# Altium schematic symbol library Schematic_Library.SchLib: 38 symbols (part 2 of 2)
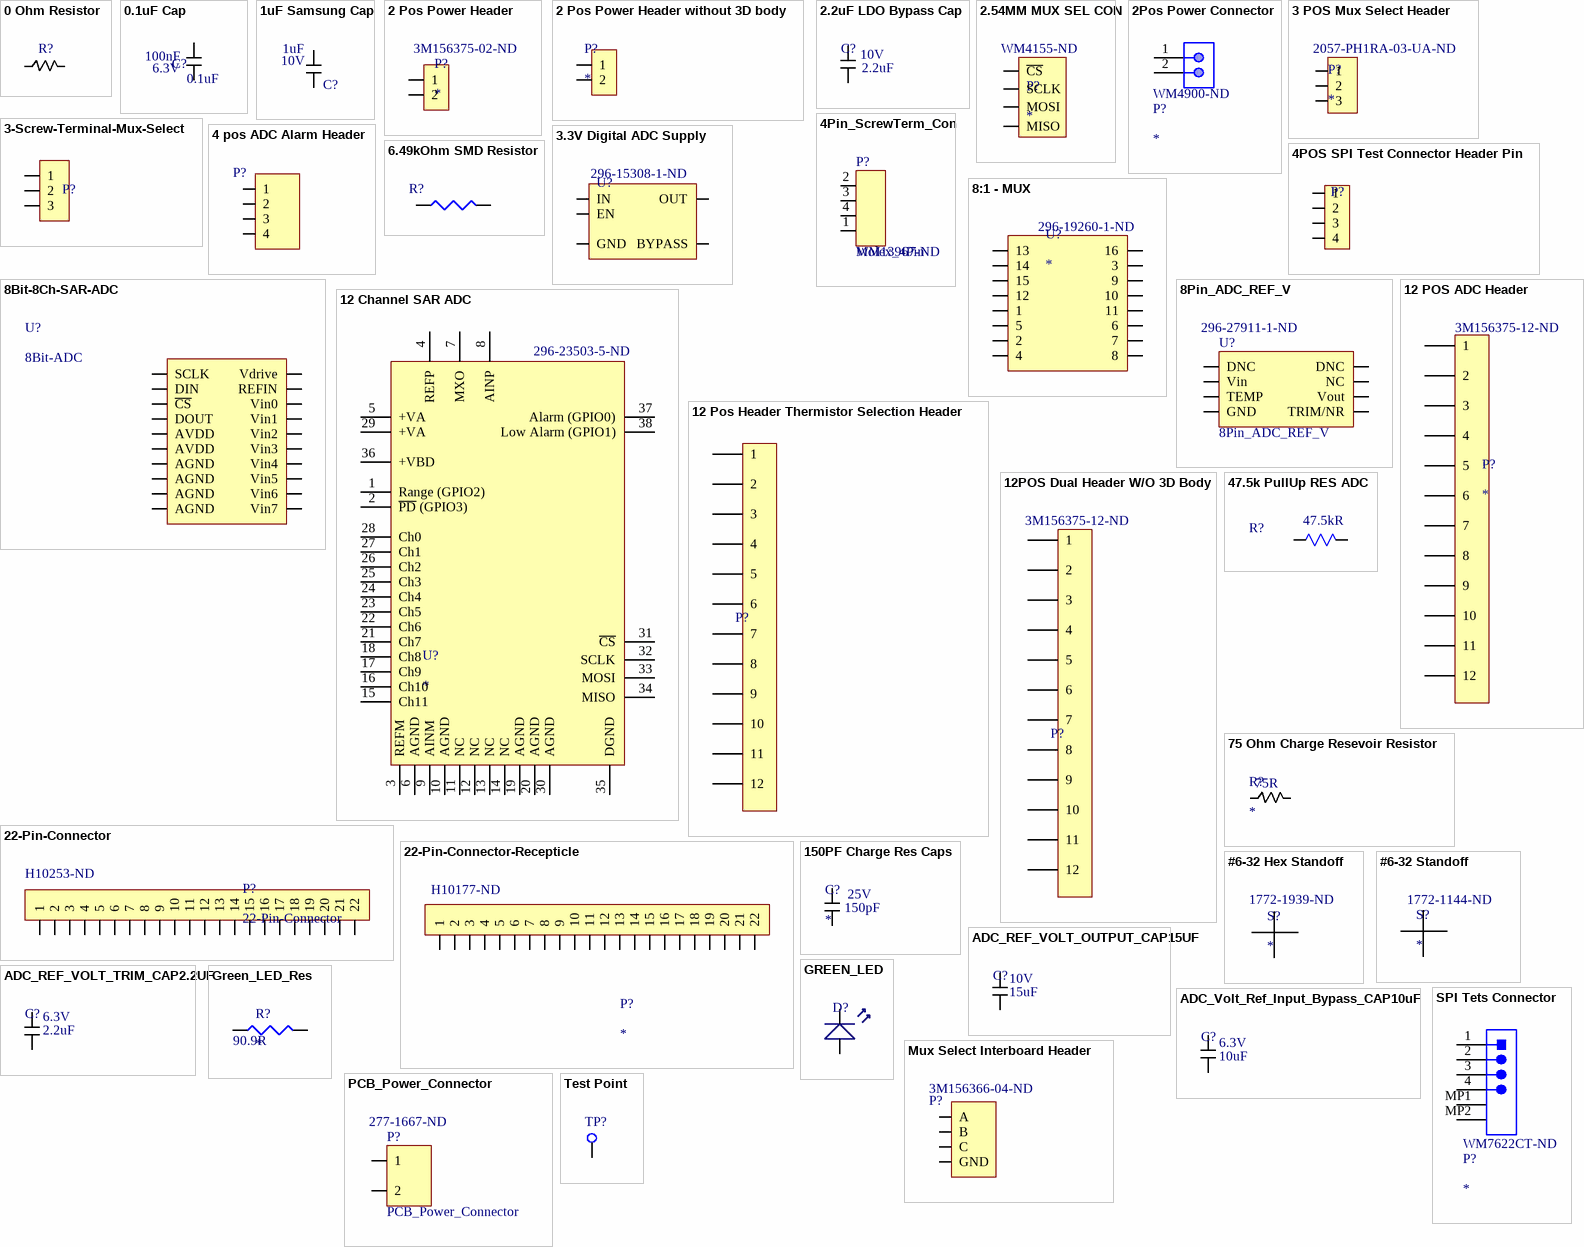
[diagram p1: symbols 0 Ohm Resistor to Test Point]

## ADC_REF_VOLT_TRIM_CAP2.2UF
designator C?  Voltage Rating: 6.3V  Capacitance: 2.2uF  (hidden comment: *)
2.2µF ±10% 6.3V Ceramic Capacitor X7R 0603 (1608 Metric); Manufacturer: Taiyo Yuden; Manufacturer Part Number: JMK107B7225KAHTR; Description: CAP CER 2.2UF 6.3V X7R 0603; Supplier 1: Digi-Key; RoHS: No; Stock 1: 55560; Pricing 1: 1 = 0.24000, 10 = 0.16600, 100 = 0.09400, 500 = 0.06638, 1000 = 0.05808 (USD); Mount: Surface Mount; Case/Package: 0603; Case Code (Imperial): 0603; Case Code (Metric): 1608; Min Operating Temperature: -55°C; Max Operating Temperature: 125°C; Packaging: Cut Tape; Tolerance: 10%; Ratings: AEC-Q200; ComponentLink1URL: http://ds.yuden.co.jp/TYCOMPAS/ut/detail.do?productNo=JMK107B7225KAHTR&fileName=JMK107B7225KAHTR_SS&mode=specSheetDownload&src-supplier=Digi-Key; ComponentLink1Description: http://ds.yuden.co.jp/TYCOMPAS/ut/detail.do?productNo=JMK107B7225KAHTR&fileName=JMK107B7225KAHTR_SS&mode=specSheetDownload&src-supplier=Digi-Key; ComponentLink2URL: https://www.yuden.co.jp/productdata/catalog//mlcc11_hq_e.pdf?src-supplier=Digi-Key; ComponentLink2Description: https://www.yuden.co.jp/productdata/catalog//mlcc11_hq_e.pdf?src-supplier=Digi-Key; Supplier Part Number 1: 587-4899-1-ND
footprint 0603_MD_CAP
pins: 1, 2

## ADC_Volt_Ref_Input_Bypass_CAP10uF
designator C?  Voltage Rating: 6.3V  Capacitance: 10uF  (hidden comment: *)
10µF ±10% 6.3V Ceramic Capacitor X7R 0805 (2012 Metric); Manufacturer: Taiyo Yuden; Manufacturer Part Number: JMK212AB7106KGHT; Description: Multilayer Ceramic Capacitors MLCC - SMD/SMT 10uF 6.3V X7R +/-10% 0805 AEC-Q200; Supplier 1: Digi-Key; RoHS: Yes; Stock 1: 179784; Pricing 1: 1 = 0.29000, 10 = 0.19900, 100 = 0.11250, 500 = 0.07940, 1000 = 0.06948 (USD); Mount: Surface Mount; Case/Package: 0805; Case Code (Metric): 2012; Case Code (Imperial): 0805; Min Operating Temperature: -55°C; Max Operating Temperature: 125°C; Package Quantity: 3000; Packaging: Tape and Reel; Tolerance: 10%; Voltage Rating (DC): 6.3V; Dielectric: X7R; Termination: SMD/SMT; Length: 0.079inch; Height: 1.25mm; Width: 0.049inch; Thickness: 0.053inch; Ratings: AEC-Q200; Lead Free: Lead Free; Halogen Free: Halogen Free; ComponentLink1URL: https://datasheet.ciiva.com/18697/mlcc01-hq-e-18697416.pdf?src-supplier=Digi-Key; ComponentLink1Description: https://datasheet.ciiva.com/18697/mlcc01-hq-e-18697416.pdf?src-supplier=Digi-Key; ComponentLink2URL: https://datasheet.ciiva.com/18697/mlcc01-hq-e-18697417.pdf?src-supplier=Digi-Key; ComponentLink2Description: https://datasheet.ciiva.com/18697/mlcc01-hq-e-18697417.pdf?src-supplier=Digi-Key; ComponentLink3URL: https://datasheet.ciiva.com/18697/mlcc01-hq-e-18697418.pdf?src-supplier=Digi-Key; ComponentLink3Description: https://datasheet.ciiva.com/18697/mlcc01-hq-e-18697418.pdf?src-supplier=Digi-Key; Supplier Part Number 1: 587-3388-1-ND
footprint 0805_MD_CAP
pins: 1, 2

## GREEN_LED
designator D?, comment LED  (value not drawn)
Manufacturer: Dialight; Manufacturer Part Number: 5988070107F; Color: Green; Lens Color: Colorless,Clear; Forward Voltage: 2V; Forward Current: 20mA; Wavelength: 570nm; Luminous Intensity: 20mcd; Viewing Angle: 140°; Lens Style: Flat,Rectangular,Diffused,Colorless,Clear; Dominant Wavelength: 568nm; Number of Elements: 1; Power Dissipation: 60mW; Reverse Voltage: 5V; Lens Transparency: Clear; Lens Size: 0.8mm; Supplier 1: Digi-Key; Stock 1: 228546; Pricing 1: 1=0.46, 10=0.33, 25=0.2528, 100=0.1648, 250=0.1209, 500=0.1026, 1000=0.0843 (USD); Mount: Surface Mount; Case/Package: 0603; Number of Pins: 2; Case Code (Metric): 1608; Case Code (Imperial): 0603; Min Operating Temperature: -30°C; Max Operating Temperature: 100°C; Package Quantity: 4000; Packaging: Tape and Reel; Illumination Color: Green; Test Current: 20mA; Number of LEDs: 1; Length: 1.6mm; Height: 0.7mm; Depth: 0.8mm; Width: 0.8mm; Radiation Hardening: No; Lead Free: Lead Free; REACH SVHC: No SVHC; ComponentLink1URL: http://www.mouser.com/ds/2/109/SMT_selector_guide-267443.pdf?src-supplier=Mouser; ComponentLink1Description: http://www.mouser.com/ds/2/109/SMT_selector_guide-267443.pdf?src-supplier=Mouser; ComponentLink2URL: http://uk.rs-online.com/webdocs/0ae2/0900766b80ae2975.pdf?src-supplier=RSComponents; ComponentLink2Description: http://uk.rs-online.com/webdocs/0ae2/0900766b80ae2975.pdf?src-supplier=RSComponents; ComponentLink3URL: http://www.farnell.com/datasheets/1720200.pdf?src-supplier=Element14; ComponentLink3Description: http://www.farnell.com/datasheets/1720200.pdf?src-supplier=Element14; ComponentLink4URL: https://media.digikey.com/pdf/Data%20Sheets/Dialight%20PDFs/598_Series_0603_Pkg.pdf?src-supplier=Digi-Key; ComponentLink4Description: https://media.digikey.com/pdf/Data%20Sheets/Dialight%20PDFs/598_Series_0603_Pkg.pdf?src-supplier=Digi-Key; ComponentLink5URL: http://www.farnell.com/datasheets/1484480.pdf?src-supplier=Element14; ComponentLink5Description: http://www.farnell.com/datasheets/1484480.pdf?src-supplier=Element14; ComponentLink6URL: https://www.alliedelec.com/m/d/745256ca487aea7b70ea31e2d673d5bb.pdf?src-supplier=Allied+Electronics; ComponentLink6Description: https://www.alliedelec.com/m/d/745256ca487aea7b70ea31e2d673d5bb.pdf?src-supplier=Allied+Electronics; ComponentLink7URL: http://www.onlinecomponents.com/productFiles/mf-DIA/mdei5980603.pdf?src-supplier=Onlinecomponents.com; ComponentLink7Description: http://www.onlinecomponents.com/productFiles/mf-DIA/mdei5980603.pdf?src-supplier=Onlinecomponents.com; ComponentLink8URL: https://www.verical.com/server-webapp/html/getDatasheet?partID=146438&src-supplier=Verical; ComponentLink8Description: https://www.verical.com/server-webapp/html/getDatasheet?partID=146438&src-supplier=Verical; ComponentLink9URL: http://www.dialight.com/Assets/Brochures_And_Catalogs/Indication/SMT_selector_guide.pdf?src-supplier=Future+Electronics; ComponentLink9Description: http://www.dialight.com/Assets/Brochures_And_Catalogs/Indication/SMT_selector_guide.pdf?src-supplier=Future+Electronics; Supplier Part Number 1: 350-2035-1-ND
footprint Green_SMD_LED
pins: 1, 2

## Green_LED_Res
designator R?  Resistance: 90.9R
Manufacturer: Panasonic; Manufacturer Part Number: ERJ-1GNF90R9C; Power Rating: 50mW; Tolerance: 1%; Voltage Rating: 25V; Temperature Coefficient: 200ppm/°C; Voltage Rating (DC): 50V; Mount: Surface Mount; Case/Package: 0201; Case Code (Imperial): 0201; Case Code (Metric): 0603; Contact Plating: Tin,Matte; Min Operating Temperature: -55°C; Max Operating Temperature: 125°C; Package Quantity: 15000; Packaging: Tape and Reel; Composition: Thick Film; Number of Terminations: 2; Max Power Dissipation: 50mW; Termination: SMD/SMT; Length: 0.024inch; Height: 0.01inch; Width: 0.3mm; Radiation Hardening: No; Supplier 1: Digi-Key; Stock 1: 401780; Pricing 1: 1=0.10000, 10=0.02400, 100=0.00970, 1000=0.00437, 2500=0.00379 (USD); RoHS: Yes; Military Standard: Not; Depth: 0.8mm; Lead Free: Lead Free; ComponentLink1URL: https://datasheet.ciiva.com/15189/getdatasheetpartid-326528-15189836.pdf?src-supplier=Verical; ComponentLink1Description: https://datasheet.ciiva.com/15189/getdatasheetpartid-326528-15189836.pdf?src-supplier=Verical; ComponentLink2URL: https://datasheet.ciiva.com/12558/rc0603-272842-12558285.pdf?src-supplier=Mouser; ComponentLink2Description: https://datasheet.ciiva.com/12558/rc0603-272842-12558285.pdf?src-supplier=Mouser; Supplier Part Number 1: 311-90.9HRCT-ND
footprint Green_LED_Resistor_90.9
pins: 1, 2

## Mux Select Interboard Header
designator P?  Supplier Part Number 1: 3M156366-04-ND  (hidden comment: *)
Connector Header Through Hole 4 position 0.100" (2.54mm); Manufacturer: 3M; Manufacturer Part Number: 929710-06-02-RK; Number of Positions: 4; Gender: Male; Connector Type: Male Pin; Pitch: 0.1inch; Supplier 1: Digi-Key; Stock 1: 0; Pricing 1: 1=0.55000, 10=0.52000, 25=0.46800, 50=0.41600, 100=0.39870, 250=0.36400, 500=0.34666 (USD); Mount: Through Hole; Color: Black; Contact Plating: Tin; Package Quantity: 1000; Number of Rows: 2; Packaging: Bulk; Termination: Solder; Row Spacing: 0.1inch; Contact Mating Length: 0.318inch; ComponentLink1URL: https://datasheet.ciiva.com/6818/ts0769-6818121.pdf?src-supplier=Digi-Key; ComponentLink1Description: https://datasheet.ciiva.com/6818/ts0769-6818121.pdf?src-supplier=Digi-Key; ComponentLink2URL: https://datasheet.ciiva.com/15402/ts0769-15402221.pdf?src-supplier=Mouser; ComponentLink2Description: https://datasheet.ciiva.com/15402/ts0769-15402221.pdf?src-supplier=Mouser
footprint Mux Select Interboard Connector
pins: 1 A, 2 B, 3 C, 4 GND

## PCB_Power_Connector
designator P?  Supplier Part Number 1: 277-1667-ND
Manufacturer: Phoenix Contact; Manufacturer Part Number: PT1,5/2-5.0-H; Max Current Rating: 16A; Max Supply Voltage: 250V; Current Rating: 17.5A; Number of Poles: 2; Number of Levels: 1; Current: 18A; Voltage: 300V; Voltage Rating (DC): 320V; Connector Type: Screw; Wire Gauge (Max): 26AWG; Wire Gauge (Min): 12AWG; Pitch: 5mm; Wire/Cable Gauge: 14AWG; Approvals: UL; Supplier 1: Digi-Key; Stock 1: 104404; Pricing 1: 1=0.43, 10=0.411, 50=0.3928, 100=0.382, 250=0.357, 500=0.3284, 1000=0.3035 (USD); Mount: Through Hole; Number of Pins: 2; Weight: 0.067021oz; Color: Green; Material: Nylon; Housing Color: Green; Housing Material: Polyamide; Insulation Material: Nylon; Contact Material: Copper,Tin; Number of Rows: 1; Voltage Rating: 250V; Package Quantity: 250; Packaging: Bulk; Number of Positions: 2; Number of Positions Per Level: 2; Termination: Solder; Number of Contacts: 2; Number of Circuits: 2; Orientation: Straight; Length: 9mm; Height: 11.3mm; Width: 14.9mm; Depth: 9mm; Radiation Hardening: No; Lead Free: Lead Free; Flammability Rating: UL94 V-0; ComponentLink1URL: https://media.digikey.com/pdf/Data%20Sheets/Phoenix%20Contact%20PDFs/1935161.pdf; ComponentLink1Description: https://media.digikey.com/pdf/Data%20Sheets/Phoenix%20Contact%20PDFs/1935161.pdf; ComponentLink2URL: https://www.verical.com/server-webapp/html/getDatasheet?partID=177903; ComponentLink2Description: https://www.verical.com/server-webapp/html/getDatasheet?partID=177903
footprint Power_Connector
pins: 1 "Board Power", 2 "Board Power"

## SPI Tets Connector
designator P?  Supplier Part Number 1: WM7622CT-ND
1.25mm Pitch PicoBlade™ Header, Surface Mount, Right Angle, 4 Circuits; Manufacturer: Molex; Manufacturer Part Number: 53261-0471; Number of Positions: 4; Gender: Male; Current Rating: 1A; Voltage Rating: 125V; Insulation Resistance: 100MR; Contact Resistance: 20mR; Glow Wire Compliant: Non-compliant; Supplier 1: Digi-Key; Stock 1: 20955; Pricing 1: 1=1.24000, 10=1.08900, 100=0.93970, 500=0.76884 (USD); RoHS: Yes; Mount: Surface Mount; Contact Plating: Tin; Contact Material: Bronze; Color: Beige; Housing Material: Thermoplastic; Min Operating Temperature: -40°C; Max Operating Temperature: 85°C; Number of Rows: 1; Package Quantity: 1000; Packaging: Tape and Reel; Termination: SMD/SMT; Number of Contacts: 4; Orientation: Right Angle; Voltage Rating (AC): 125V; Working Voltage: 125V; Number of Circuits: 4; Voltage Rating (DC): 125V; Pitch: 1.25mm; Lead Pitch: 1.25mm; Radiation Hardening: No; REACH SVHC: Unknown; Flammability Rating: UL94 V-0; Lead Free: Lead Free; ComponentLink1URL: https://datasheet.ciiva.com/5153/0532610471-pcb-headers-170942-5153858.pdf?src-supplier=Mouser; ComponentLink1Description: https://datasheet.ciiva.com/5153/0532610471-pcb-headers-170942-5153858.pdf?src-supplier=Mouser; ComponentLink2URL: https://datasheet.ciiva.com/11750/0900766b8078fc7e-11750771.pdf?src-supplier=RSComponents; ComponentLink2Description: https://datasheet.ciiva.com/11750/0900766b8078fc7e-11750771.pdf?src-supplier=RSComponents; ComponentLink3URL: https://datasheet.ciiva.com/30219/60210532610471-pcb-headers-30219733.pdf?src-supplier=Onlinecomponents.com; ComponentLink3Description: https://datasheet.ciiva.com/30219/60210532610471-pcb-headers-30219733.pdf?src-supplier=Onlinecomponents.com; ComponentLink4URL: https://datasheet.ciiva.com/7167/1626149-7167499.pdf?src-supplier=Newark; ComponentLink4Description: https://datasheet.ciiva.com/7167/1626149-7167499.pdf?src-supplier=Newark; ComponentLink5URL: https://datasheet.ciiva.com/34303/1932555-34303343.pdf?src-supplier=Jameco; ComponentLink5Description: https://datasheet.ciiva.com/34303/1932555-34303343.pdf?src-supplier=Jameco; ComponentLink6URL: https://datasheet.ciiva.com/7844/1867384-7844038.pdf?src-supplier=Element14; ComponentLink6Description: https://datasheet.ciiva.com/7844/1867384-7844038.pdf?src-supplier=Element14; ComponentLink7URL: https://datasheet.ciiva.com/16658/0532610471-pcb-headers-16658425.pdf?src-supplier=Avnet+Europe; ComponentLink7Description: https://datasheet.ciiva.com/16658/0532610471-pcb-headers-16658425.pdf?src-supplier=Avnet+Europe; ComponentLink8URL: https://datasheet.ciiva.com/10088/0532610471-pcb-headers-10088986.pdf?src-supplier=Avnet; ComponentLink8Description: https://datasheet.ciiva.com/10088/0532610471-pcb-headers-10088986.pdf?src-supplier=Avnet; ComponentLink9URL: https://datasheet.ciiva.com/18448/70091119-18448940.pdf?src-supplier=Allied+Electronics; ComponentLink9Description: https://datasheet.ciiva.com/18448/70091119-18448940.pdf?src-supplier=Allied+Electronics
footprint SPI Testing Connector
pins: 1, 2, 3, 4, MP1, MP2

## Test Point
designator TP?  (value not drawn)
footprint Test Point
pins: 1